# Altium schematic symbol library OC_PIN.SchLib: 1 symbol
Pins are listed as number, name and electrical type; pins without a type are passive.

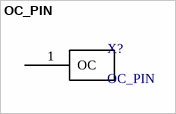
[diagram p0: symbol OC_PIN]

## OC_PIN
designator X?
Open collector pin test
pins: 1 OC (oc)